# Altium footprint library 8-MSOP.PcbLib: 1 footprints
Each footprint in its own frame and in the unit in brackets; x right, y up, seen from the top. Pads: shape width x height; smd on the part's side, far side on the other; paste and mask are expansions set on the pad; w line width, h text height; cw(c..) or ccw(c..) is an arc to the next point about the centre after c.
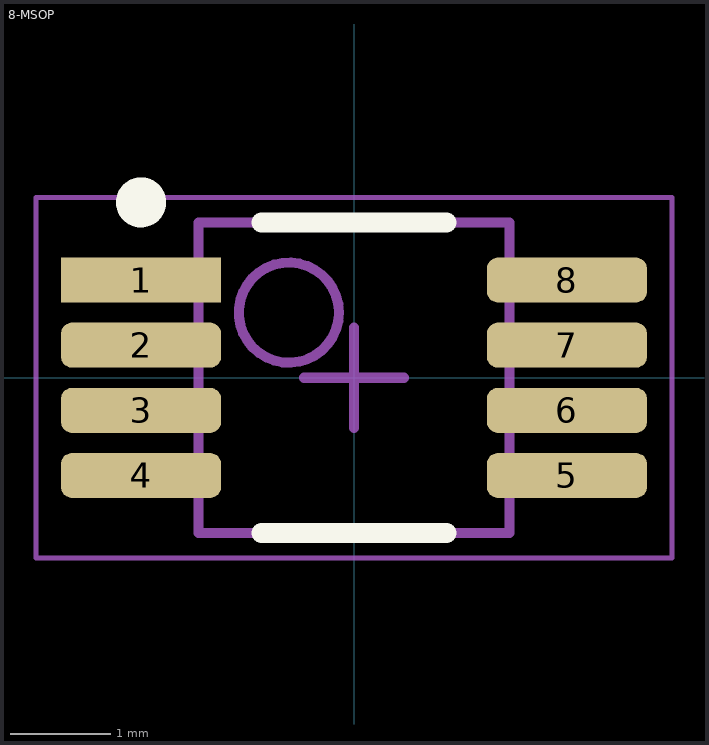
[diagram p0: the footprint, top view; thin cyan lines are the x and y axes]

## 8-MSOP [mm] "TSOP, 8-Leads, Body 3.00x3.00mm, Pitch 0.65mm, IPC Medium Density"
height 1.1
pads (8):
  rect 1.6x0.45 smd: 1(-2.125,0.975)
  rrect50% 1.6x0.45 smd: 2(-2.125,0.325) 3(-2.125,-0.325) 4(-2.125,-0.975) 5(2.125,-0.975) 6(2.125,-0.325) 7(2.125,0.325) 8(2.125,0.975)
Top Overlay:
  circle w0.25: c-2.125,1.75 r0.125
  lines w0.2: -0.925,-1.55 0.925,-1.55 ; -0.925,1.55 0.925,1.55
Mechanical 13:
  circle w0.1: c-0.65,0.65 r0.5
  lines w0.1: -1.55,-1.55 1.55,-1.55 1.55,1.55 -1.55,1.55 -1.55,-1.55
Mechanical 15:
  lines w0.05: -3.175,-1.8 3.175,-1.8 3.175,1.8 -3.175,1.8 -3.175,-1.8
  lines w0.1: -0.5,0 0.5,0 ; 0,-0.5 0,0.5
3D body: height 1, standoff -0.07, extent -2.51,-1.5 2.511,1.5